# Altium integrated library 1776275-2.IntLib: 1 symbol
Pins are listed as number, name and electrical type; pins without a type are passive.

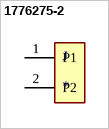
[diagram p0: symbol 1776275-2]

## 1776275-2
designator J
Conn Terminal Block 2 POS 3.5mm Solder ST Thru-Hole 7A/Contact; MF: TE Connectivity; Number_of_Positions: 2; MP: 1776275-2; Centerline_Pitch: 3.5 mm[.138 in]; Value: *; TE_purchase_URL: https://www.te.com/usa-en/product-1776275-2.html?te_bu=Cor&te_type=disp&te_campaign=seda_glo_cor-seda-global-disp-prtnr-fy19-seda-model-bom-cta_sma-317_1&elqCampaignId=32493; Price: None; EU_RoHS_Compliance: Compliant with Exemptions; Availability: Unavailable; SnapEDA_Link: https://www.snapeda.com/parts/1776275-2/TE%20Connectivity%20AMP%20Connectors/view-part/269482/?ref=snap; Package: None
footprint TE_1776275-2
pins: 1 P1, 2 P2